# Altium schematic symbol library Capacitor Ceramic.SchLib: 2 symbols
Pins are listed as number, name and electrical type; pins without a type are passive.

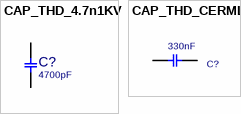
[diagram p0: symbols CAP_THD_4.7n1KV to CAP_THD_CERML]

## CAP_THD_4.7n1KV
designator C?, comment 4700pF
CAP, CER; MANF_P#: H472K47X7RN63J7R; MANF: Vishay; PARAM: X7R, 10%, , -55~125oC; DESC: CAP, MLCC; DIST#: MOUSER; PARAM2: 1KV; ASSEMBLY: ASSEMBLY; PRICE: 0.17$; VALUE: 4700pF
footprint C_CER_D12 (CAP, CER MULTILAYER, 12X4mm, pitch: 7.5mm)
pins: 1, 2

## CAP_THD_CERML
designator C?, comment 330nF
CAP, THD, CER MULTI LAYER,; PARAM: 50V; DESC: CAP, CER MULTI LAYER,; MANF_P#: MANF_PART#; PRICE: 100= 1$; MANF: MANF; PARAM2: PARAM2; ASSEMBLY: ASSEMBLY; VALUE: 330nF
footprint C_CER_D3 (CAP, CER MULTILAYER, D:3.5mm, pitch: 2.54mm)
footprint C_CER_D5 (CAP, CER, D:5mm, pitch: 2.5mm)
footprint C_CER_D6A (CAP, CER MULTILAYER, 5.8X1.7mm, pitch: 2.5mm)
footprint C_CER_D6B (CAP, CER MULTILAYER, 6X2mm, pitch: 5mm)
footprint C_CER_D7A (CAP, CER MULTILAYER, 7.0X1.7mm, pitch: 5.0mm)
footprint C_CER_D7B (CAP, CER MULTILAYER, 7.0X2.6mm, pitch: 5.0mm)
footprint C_CER_D10 (CAP, CER MULTILAYER, 12X4mm, pitch: 7.5mm)
footprint C_CER_D12 (CAP, CER MULTILAYER, 12X4mm, pitch: 7.5mm)
footprint C_CER_M4 (CAP, CER MULTILAYER, 4.2X2.0mm, pitch: 5.0mm, TDK FK24)
footprint C_CER_M5 (CAP, CER MULTILAYER, 5.0X2.5mm, pitch: 2.5mm, RAD0.1)
pins: 1, 2